# EAGLE library part MD-80SM (library MD-80SM)
Check availability <https://pricing.snapeda.com/parts/MD-80SM/Same%20Sky/view-part?ref=eda>
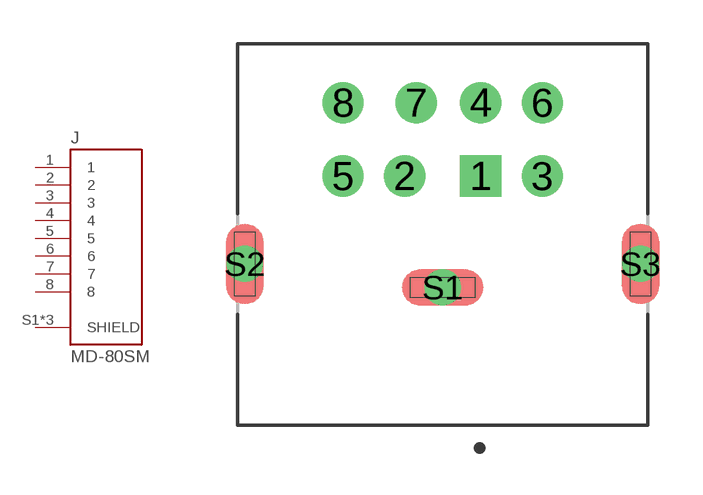
[diagram p0: symbol with the pads of CUI_MD-80SM; footprint CUI_MD-80SM]

Designator prefix J

## MD-80SM (Availability: In Stock; Check_prices: https://www.snapeda.com/parts/MD-80SM/Same+Sky/view-part/?ref=eda; Description: 8 Pin, Mini Circular Connector w/ Shield; MF: Same Sky; MP: MD-80SM; Package: None; Price: None; SnapEDA_Link: https://www.snapeda.com/parts/MD-80SM/Same+Sky/view-part/?ref=snap)  [CUI_MD-80SM]
1  1  pas
2  2  pas
3  3  pas
4  4  pas
5  5  pas
6  6  pas
7  7  pas
8  8  pas
S1  SHIELD  pas
S2  SHIELD  pas
S3  SHIELD  pas

## Footprint CUI_MD-80SM (pad centres in mm)
drill 0.9 square: 1 1.3,3.8
drill 0.9: 2 -1.3,3.8; 3 3.4,3.8; 4 1.3,6.3; 5 -3.4,3.8; 6 3.4,6.3; 7 -0.9,6.3; 8 -3.4,6.3
drill 0.7 pad 1.23: S1 0,0; S2 -6.75,0.8; S3 6.75,0.8